# Altium schematic symbol library TP4056.SchLib: 1 symbol
Pins are listed as number, name and electrical type; pins without a type are passive.

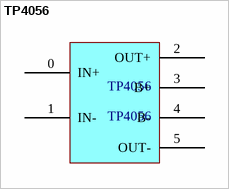
[diagram p0: symbol TP4056]

## TP4056
designator TP4056
footprint TP4056
pins: 0 IN+, 1 IN-, 2 OUT+, 3 B+, 4 B-, 5 OUT-